# Altium integrated library AltiumDesignerLibrary.IntLib: 55 symbols (part 1 of 2)
Pins are listed as number, name and electrical type; pins without a type are passive.

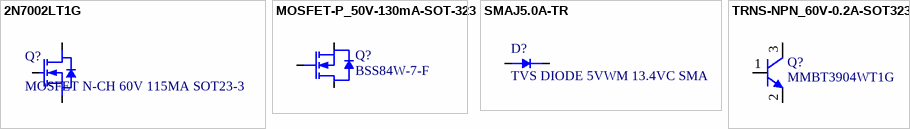
[diagram p0: symbols 2N7002LT1G to TRNS-NPN_60V-0.2A-SOT323]

## 2N7002LT1G
designator Q?, comment MOSFET N-CH 60V 115MA SOT23-3
Mosfet; N-ch; Vdss 60VDC; Rds(on) 7.5 Ohms; Id +/-115MA; SOT-23 (TO-236); Pd 225MW; -55; Manufacturer: ON Semiconductor; Manufacturer Part Number: 2N7002LT1G; Rds On Max: 7.5R; Input Capacitance: 50pF; Nominal Vgs: 2.5V; Number of Elements: 1; Power Dissipation: 300mW; Turn-Off Delay Time: 40ns; Turn-On Delay Time: 20ns; Element Configuration: Single; Gate to Source Voltage (Vgs): 20V; Supplier 1: Digi-Key; RoHS: Yes; Category: MOSFETs; Pricing 1: 1=0/20000, 10=0/18100, 100=0/09830, 500=0/06050, 1000=0/04125 (USD); Case/Package: SOT-23-3; Number of Pins: 3; Contact Plating: Tin,Matte; Min Operating Temperature: -55°C; Max Operating Temperature: 150°C; Package Quantity: 1; Max Power Dissipation: 225mW; Packaging: Tape and Reel; Drain to Source Voltage (Vdss): 60V; Continuous Drain Current (ID): 115mA; Drain to Source Breakdown Voltage: 60V; Drain to Source Resistance: 7.5R; Threshold Voltage: 2.5V; Voltage Rating (DC): 60V; Current Rating: 115mA; On-State Resistance: 7.5R; Number of Channels: 1; Length: 3.04mm; Width: 1.4mm; Height: 1.01mm; Radiation Hardening: No; REACH SVHC: No SVHC; Lead Free: Lead Free; Halogen Free: Halogen Free; RoHS Compliant: Yes; ComponentLink1URL: https://datasheet.ciiva.com/936/2n7002l-d-936784.pdf?src-supplier=Digi-Key; ComponentLink1Description: https://datasheet.ciiva.com/936/2n7002l-d-936784.pdf?src-supplier=Digi-Key; ComponentLink2URL: https://datasheet.ciiva.com/22749/1747988-22749570.pdf?src-supplier=Element14; ComponentLink2Description: https://datasheet.ciiva.com/22749/1747988-22749570.pdf?src-supplier=Element14; ComponentLink3URL: https://datasheet.ciiva.com/3304/2n7002l-d-3304393.pdf?src-supplier=Avnet; ComponentLink3Description: https://datasheet.ciiva.com/3304/2n7002l-d-3304393.pdf?src-supplier=Avnet; ComponentLink4URL: https://datasheet.ciiva.com/24157/2n7002l-d-24157398.pdf?src-supplier=Future+Electronics; ComponentLink4Description: https://datasheet.ciiva.com/24157/2n7002l-d-24157398.pdf?src-supplier=Future+Electronics; ComponentLink5URL: https://datasheet.ciiva.com/26146/2n7002l-d-26146173.pdf?src-supplier=Avnet+Europe; ComponentLink5Description: https://datasheet.ciiva.com/26146/2n7002l-d-26146173.pdf?src-supplier=Avnet+Europe; ComponentLink6URL: https://datasheet.ciiva.com/16542/2n7002l-d-16542607.pdf?src-supplier=Avnet+Asia; ComponentLink6Description: https://datasheet.ciiva.com/16542/2n7002l-d-16542607.pdf?src-supplier=Avnet+Asia; ComponentLink7URL: https://datasheet.ciiva.com/8114/2n7002l-d-8114823.pdf?src-supplier=Avnet; ComponentLink7Description: https://datasheet.ciiva.com/8114/2n7002l-d-8114823.pdf?src-supplier=Avnet; ComponentLink8URL: https://datasheet.ciiva.com/936/2n7002l-d-936785.pdf?src-supplier=Digi-Key; ComponentLink8Description: https://datasheet.ciiva.com/936/2n7002l-d-936785.pdf?src-supplier=Digi-Key; ComponentLink9URL: https://datasheet.ciiva.com/936/2n7002l-d-936786.pdf?src-supplier=Digi-Key; ComponentLink9Description: https://datasheet.ciiva.com/936/2n7002l-d-936786.pdf?src-supplier=Digi-Key; ComponentLink10URL: https://datasheet.ciiva.com/1254/1747988-1254500.pdf?src-supplier=Newark; ComponentLink10Description: https://datasheet.ciiva.com/1254/1747988-1254500.pdf?src-supplier=Newark; ComponentLink11URL: https://datasheet.ciiva.com/1188/97418-1188471.pdf?src-supplier=Element14; ComponentLink11Description: https://datasheet.ciiva.com/1188/97418-1188471.pdf?src-supplier=Element14; Supplier Part Number 1: 2N7002LT1GOSCT-ND
footprint SOT95P245X110-3N (SOT23, 3-Leads, Body 2/90x2/45mm, Pitch 0/95mm, IPC Medium Density)
pins: 1 G, 2 S, 3 D

## MOSFET-P_50V-130mA-SOT-323
designator Q?, comment BSS84W-7-F
P-Channel 50V 130mA (Ta) 200mW (Ta) Surface Mount SOT-323; Manufacturer: Diodes Incorporated; Manufacturer Part Number: BSS84W-7-F; Case/Package: SOT-323; Supplier-1: Digikey
pins: 1 G, 2 S, 3 D

## SMAJ5.0A-TR
designator D?, comment TVS DIODE 5VWM 13.4VC SMA
13.4V Clamp 174A (8/20µs) Ipp Tvs Diode Surface Mount SMA (DO-214AC); Supplier 1: Digi-Key; Supplier Part Number 1: 497-2999-1-ND
footprint DIOM4326X24N (Molded Diode, 2-Leads, Body 4/28x2/58mm, IPC Medium Density)
pins: 1 K (power), 2 A (power)

## TRNS-NPN_60V-0.2A-SOT323
designator Q?, comment MMBT3904WT1G
Bipolar Transistors - BJT 200mA 60V NPN; Manufacturer: ON Semiconductor; Manufacturer Part Number: MMBT3904WT1G; Case/Package: SOT323; Supplier-1: Digikey
footprint SOT-323-3 (SOT Package)
pins: 1 B, 2 E, 3 C


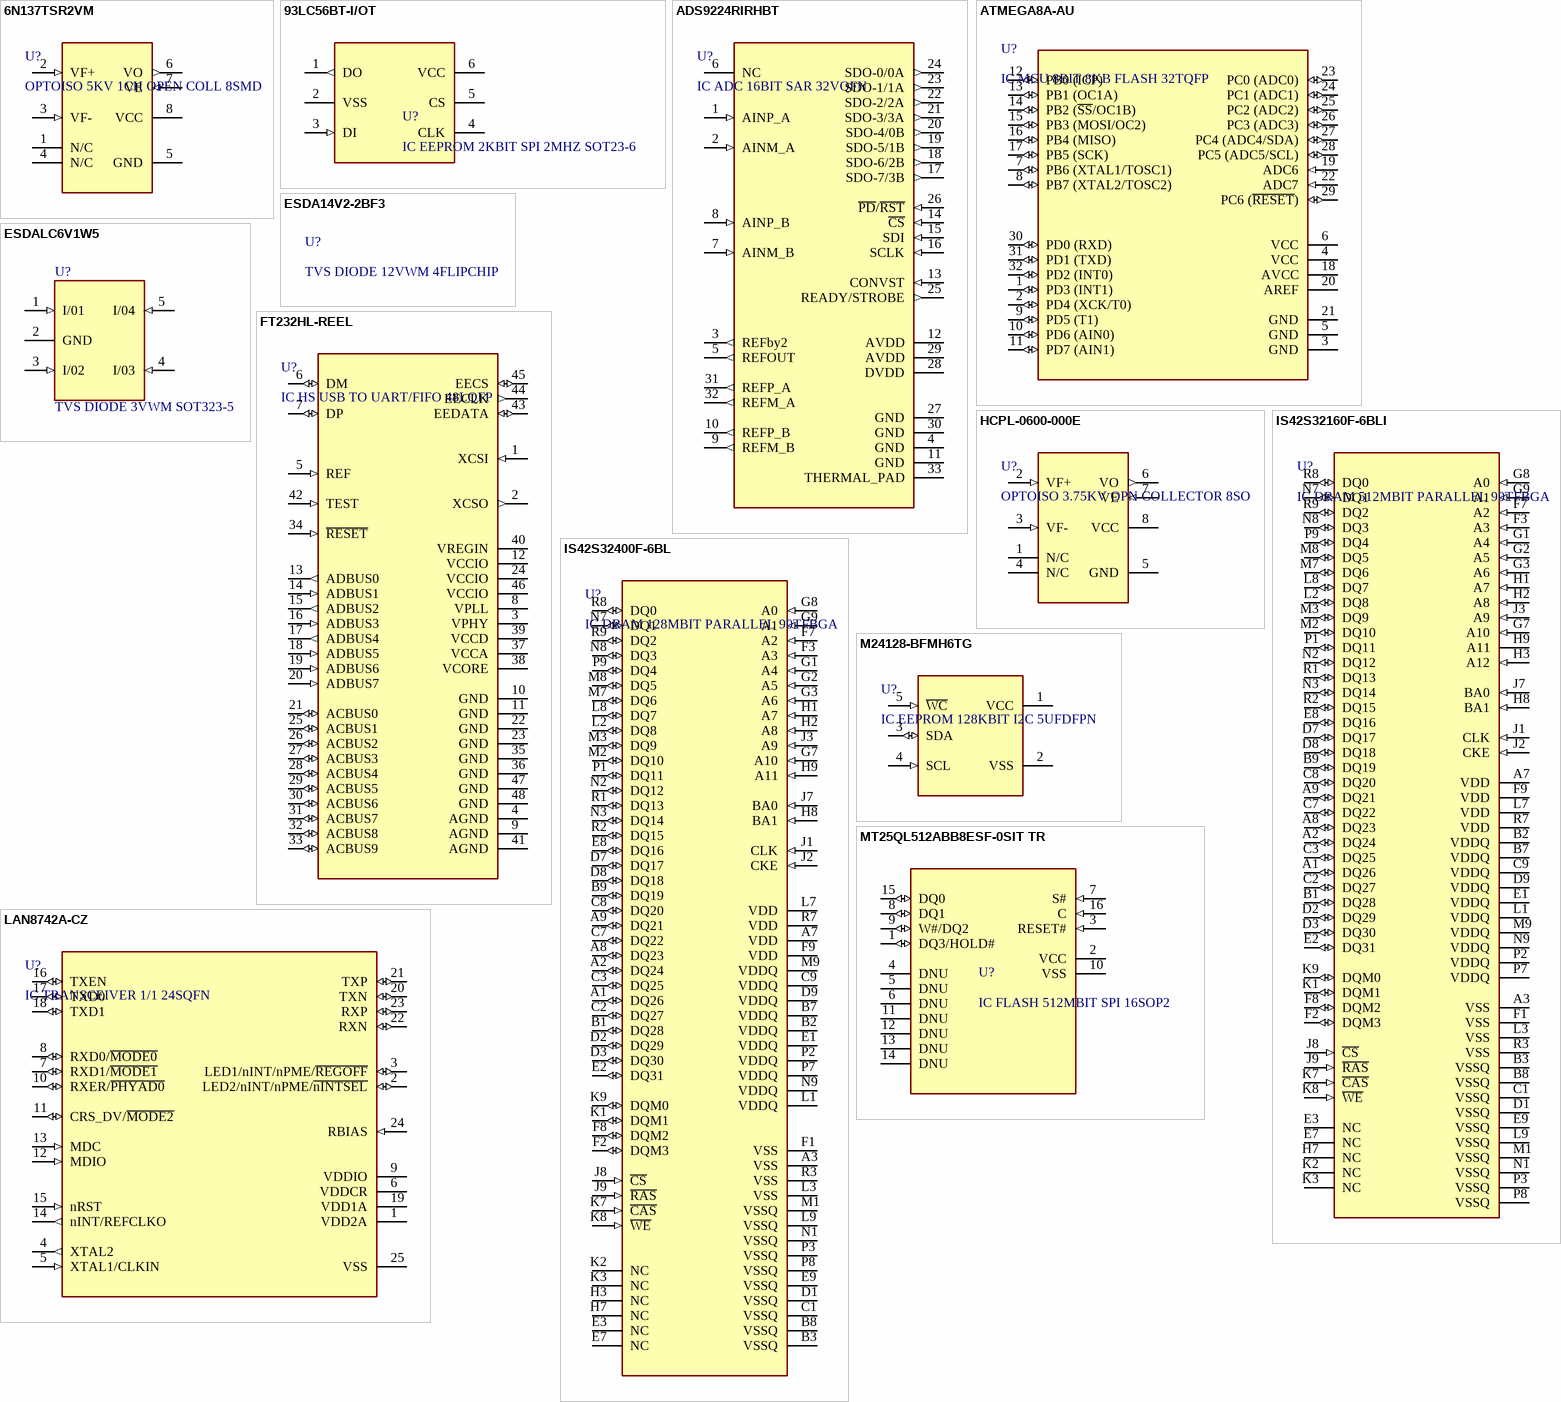
[diagram p1: symbols 6N137TSR2VM to MT25QL512ABB8ESF-0SIT TR]

## 6N137TSR2VM
designator U?, comment OPTOISO 5KV 1CH OPEN COLL 8SMD
Optocoupler Logic-Out Open Collector DC-IN 1-CH 8-Pin MDIP SMD T/R; Manufacturer: ON Semiconductor / Fairchild; Manufacturer Part Number: 6N137TSR2VM; Number of Channels: 1; Output Current per Channel: 50mA; Data Rate: 10Mbps; Propagation Delay: 75ns; Direction: Unidirectional; Forward Voltage: 1.45V; Max Power Dissipation: 100mW; Supplier 1: Digi-Key; RoHS: Yes; Category: Optocouplers; Stock 1: 53; Pricing 1: 1=2/35000, 10=1/56600, 100=1/20550 (USD); Mount: Surface Mount; Case/Package: SMD/SMT; Number of Pins: 8; Contact Plating: Tin,Matte; Weight: 0.819g; Min Operating Temperature: -40°C; Max Operating Temperature: 100°C; Packaging: Tape and Reel; Turn-On Delay Time: 75ns; Lead Free: Lead Free; RoHS Compliant: Yes; ComponentLink1URL: http://www.mouser.com/ds/2/149/6N137M-371292.pdf?src-supplier=Mouser; ComponentLink1Description: http://www.mouser.com/ds/2/149/6N137M-371292.pdf?src-supplier=Mouser; ComponentLink2URL: https://www.fairchildsemi.com/datasheets/6N/6N137M.pdf?src-supplier=Avnet; ComponentLink2Description: https://www.fairchildsemi.com/datasheets/6N/6N137M.pdf?src-supplier=Avnet; Supplier Part Number 1: 6N137TSR2VMCT-ND
footprint SOP254P1030X508-8N (SOP, 8-Leads, Body 9/66x6/61mm, Pitch 2/54mm, IPC Medium Density)
pins: 1 N/C, 2 VF+ (in), 3 VF- (in), 4 N/C, 5 GND (power), 6 VO (out), 7 VE (in), 8 VCC (power)

## 93LC56BT-I/OT
designator U?, comment IC EEPROM 2KBIT SPI 2MHZ SOT23-6
EEPROM Memory IC 2Kb (128 x 16) SPI 2 MHz SOT-23-6; Supplier 1: Digi-Key; Supplier Part Number 1: 93LC56BT-I/OTCT-ND
footprint SOT95P270X145-6N (SOT23, 6-Leads, Body 2/90x2/70mm, Pitch 0/95mm, IPC Medium Density)
pins: 1 DO (out), 2 VSS (power), 3 DI (in), 4 CLK (power), 5 CS (power), 6 VCC (power)

## ADS9224RIRHBT
designator U?, comment IC ADC 16BIT SAR 32VQFN
2-Channel Dual ADC SAR 3Msps 16-bit Serial 32-Pin VQFN EP T/R; Manufacturer: Texas Instruments; Manufacturer Part Number: ADS9224RIRHBT; Supplier 1: Digi-Key; RoHS: Yes; Category: Analog to Digital Converters (ADCs); Stock 1: 119; Pricing 1: 1=26/60000, 10=24/52800, 25=23/42600, 100=22/75000 (USD); Supplier Part Number 1: 296-ADS9224RIRHBTCT-ND
footprint QFN50P500X500X100_HS-33N (QFN, 32-Leads, Body 5/00x5/00mm, Pitch 0/50mm, Thermal Pad 3/45x3/45mm, IPC Medium Density)
pins: 1 AINP_A (in), 2 AINM_A (in), 3 REFby2 (out), 4 GND (power), 5 REFOUT (out), 6 NC, 7 AINM_B (in), 8 AINP_B (in), 9 REFM_B (out), 10 REFP_B (out), 11 GND (power), 12 AVDD (power), 13 CONVST (in), 14 ~{CS} (in), 15 SDI (in), 16 SCLK (in), 17 SDO-7/3B (out), 18 SDO-6/2B (out), 19 SDO-5/1B (out), 20 SDO-4/0B (out), 21 SDO-3/3A (out), 22 SDO-2/2A (out), 23 SDO-1/1A (out), 24 SDO-0/0A (out), 25 READY/STROBE (out), 26 ~{PD}/~{RST} (in), 27 GND (power), 28 DVDD (power), 29 AVDD (power), 30 GND (power), 31 REFP_A (out), 32 REFM_A (out), 33 THERMAL_PAD (power)

## ATMEGA8A-AU
designator U?, comment IC MCU 8BIT 8KB FLASH 32TQFP
ATmega Series 8 KB Flash 1 KB SRAM 16 MHz 8-Bit Microcontroller - TQFP-32; Manufacturer: Microchip; Manufacturer Part Number: ATMEGA8A-AU; Peripherals: Brown-out Detect/Reset,POR,PWM,WDT; Interface: I2C,SPI,UART,USART; Frequency: 16MHz; Oscillator Type: Internal; Max Supply Voltage: 5.5V; Min Supply Voltage: 2.7V; Supplier 1: Digi-Key; RoHS: Yes; Category: Microcontrollers; Pricing 1: 1=2/47000, 25=2/26560, 100=2/05850 (USD); Case/Package: TQFP; Min Operating Temperature: -40°C; Max Operating Temperature: 85°C; Memory Type: FLASH; Memory Size: 8KB; ComponentLink1URL: http://www.farnell.com/datasheets/2048764.pdf?src-supplier=Farnell; ComponentLink1Description: http://www.farnell.com/datasheets/2048764.pdf?src-supplier=Farnell; ComponentLink2URL: http://www.microchip.com/mymicrochip/filehandler.aspx?ddocname=en590320&src-supplier=Digi-Key; ComponentLink2Description: http://www.microchip.com/mymicrochip/filehandler.aspx?ddocname=en590320&src-supplier=Digi-Key; Supplier Part Number 1: ATMEGA8A-AU-ND
footprint TQFP80P900X900X120-32N (TQFP, 32-Leads, Body 7/00x7/00mm, Pitch 0/80mm, IPC Medium Density)
pins: 1 PD3 (INT1) (io), 2 PD4 (XCK/T0) (io), 3 GND (power), 4 VCC (power), 5 GND (power), 6 VCC (power), 7 PB6 (XTAL1/TOSC1) (io), 8 PB7 (XTAL2/TOSC2) (io), 9 PD5 (T1) (io), 10 PD6 (AIN0) (io), 11 PD7 (AIN1) (io), 12 PB0 (ICP) (io), 13 PB1 (OC1A) (io), 14 PB2 (~{SS}/OC1B) (io), 15 PB3 (MOSI/OC2) (io), 16 PB4 (MISO) (io), 17 PB5 (SCK) (io), 18 AVCC (power), 19 ADC6 (in), 20 AREF, 21 GND (power), 22 ADC7 (in), 23 PC0 (ADC0) (io), 24 PC1 (ADC1) (io), 25 PC2 (ADC2) (io), 26 PC3 (ADC3) (io), 27 PC4 (ADC4/SDA) (io), 28 PC5 (ADC5/SCL) (io), 29 PC6 (~{RESET}) (io), 30 PD0 (RXD) (io), 31 PD1 (TXD) (io), 32 PD2 (INT0) (io)

## ESDA14V2-2BF3
designator U?, comment TVS DIODE 12VWM 4FLIPCHIP
- Clamp - Ipp Tvs Diode Surface Mount 4-FlipChip (0.77x0.77)
footprint BGA4C40P2X2_78X78X66 (BGA, 4-Leads, Body 0/78x0/78mmx0/66mm, Pitch 0/40mm)

## ESDALC6V1W5
designator U?, comment TVS DIODE 3VWM SOT323-5
- Clamp - Ipp Tvs Diode Surface Mount SOT-323-5; Supplier 1: Digi-Key; Supplier Part Number 1: 497-7231-1-ND
footprint SOT65P210X110-5N (SOT23, 5-Leads, Body 2/00x2/10mm, Pitch 0/65mm, IPC Medium Density)
pins: 1 I/01 (in), 2 GND (power), 3 I/02 (in), 4 I/03 (in), 5 I/04 (in)

## FT232HL-REEL
designator U?, comment IC HS USB TO UART/FIFO 48LQFP
Full Speed/High Speed USB Interface Device USB 1.1/USB 2.0 3.3V T/R 48-Pin LQFP; Manufacturer: FTDI; Manufacturer Part Number: FT232HL-REEL; Number of Channels: 1; Max Supply Voltage: 3.63V; Min Supply Voltage: 2.97V; Nominal Supply Current: 60mA; Data Rate: 12Mbps; Interface: UART,RS-232,RS-422,RS-485; Operating Supply Current: 24mA; Supplier 1: Digi-Key; RoHS: Yes; Category: Interface ICs; Pricing 1: 1=3/89000, 10=3/73000, 50=3/36000, 100=3/26000, 250=3/10000, 500=3/06250 (USD); Mount: Surface Mount; Case/Package: LQFP; Number of Pins: 48; Weight: 0.006409oz; Min Operating Temperature: -40°C; Max Operating Temperature: 85°C; Packaging: Tape and Reel; Operating Supply Voltage: 3.3V; Package Quantity: 1; Series: -; Supply Current: 60mA; Length: 7mm; Width: 7mm; Height: 1.4mm; REACH SVHC: No SVHC; Lead Free: Lead Free; RoHS Compliant: Yes; ComponentLink1URL: https://datasheet.ciiva.com/1787/ds-ft232h-1787050.pdf?src-supplier=Digi-Key; ComponentLink1Description: https://datasheet.ciiva.com/1787/ds-ft232h-1787050.pdf?src-supplier=Digi-Key; ComponentLink2URL: https://datasheet.ciiva.com/1787/ds-ft232h-1787051.pdf?src-supplier=Digi-Key; ComponentLink2Description: https://datasheet.ciiva.com/1787/ds-ft232h-1787051.pdf?src-supplier=Digi-Key; ComponentLink3URL: https://datasheet.ciiva.com/1787/ds-ft232h-1787052.pdf?src-supplier=Digi-Key; ComponentLink3Description: https://datasheet.ciiva.com/1787/ds-ft232h-1787052.pdf?src-supplier=Digi-Key; ComponentLink4URL: https://datasheet.ciiva.com/4787/ds-ft232h-11324-4787564.pdf?src-supplier=Mouser; ComponentLink4Description: https://datasheet.ciiva.com/4787/ds-ft232h-11324-4787564.pdf?src-supplier=Mouser; ComponentLink5URL: https://datasheet.ciiva.com/7661/ds-ft232h-7661546.pdf?src-supplier=Element14; ComponentLink5Description: https://datasheet.ciiva.com/7661/ds-ft232h-7661546.pdf?src-supplier=Element14; Supplier Part Number 1: 768-1101-1-ND
footprint CQFP50P900X900X160-48N (CQFP, 48-Leads, Body 9/00x9/00mm, Pitch 0/50mm, IPC Medium Density)
pins: 1 XCSI (in), 2 XCSO (out), 3 VPHY (power), 4 AGND (power), 5 REF (in), 6 DM (io), 7 DP (io), 8 VPLL (power), 9 AGND (power), 10 GND (power), 11 GND (power), 12 VCCIO (power), 13 ADBUS0 (out), 14 ADBUS1 (in), 15 ADBUS2 (out), 16 ADBUS3 (in), 17 ADBUS4 (out), 18 ADBUS5 (in), 19 ADBUS6 (in), 20 ADBUS7 (in), 21 ACBUS0 (io), 22 GND (power), 23 GND (power), 24 VCCIO (power), 25 ACBUS1 (io), 26 ACBUS2 (io), 27 ACBUS3 (io), 28 ACBUS4 (io), 29 ACBUS5 (io), 30 ACBUS6 (io), 31 ACBUS7 (io), 32 ACBUS8 (io), 33 ACBUS9 (io), 34 ~{RESET} (in), 35 GND (power), 36 GND (power), 37 VCCA (power), 38 VCORE (power), 39 VCCD (power), 40 VREGIN (power), 41 AGND (power), 42 TEST (in), 43 EEDATA (io), 44 EECLK (out), 45 EECS (io), 46 VCCIO (power), 47 GND (power), 48 GND (power)

## HCPL-0600-000E
designator U?, comment OPTOISO 3.75KV OPN COLLECTOR 8SO
Optocoupler Logic-Out Open Collector DC-IN 1-CH 8-Pin SOIC Tube; Manufacturer: Broadcom Avago; Manufacturer Part Number: HCPL-0600-000E; Output Current: 50mA; Rise Time: 24ns; Forward Current: 20mA; Forward Voltage: 1.75V; Propagation Delay: 75ns; Reverse Breakdown Voltage: 5V; Direction: Unidirectional; Max Power Dissipation: 85mW; Number of Channels: 1; Fall Time: 10ns; Min Supply Voltage: 4.5V; Max Supply Voltage: 5.5V; Max Output Voltage: 7V; Input Type: DC; Approvals: UL,CSA; Supplier 1: Digi-Key; RoHS: Yes; Category: Optocouplers; Stock 1: 8582; Pricing 1: 1=2/57000, 10=1/71100, 100=1/31710, 500=1/19060, 1000=1/05300 (USD); Mount: Surface Mount,Through Hole; Case/Package: SOIC; Number of Pins: 8; Min Operating Temperature: -40°C; Max Operating Temperature: 85°C; Package Quantity: 100; Packaging: Rail/Tube; Max Output Current: 50mA; Output Current per Channel: 50mA; Isolation Voltage: 3.75kV; Number of Elements: 1; Power Dissipation: 85mW; Turn-On Delay Time: 75ns; Max Input Current: 20mA; Series: -; Collector Emitter Breakdown Voltage: 7V; Radiation Hardening: No; REACH SVHC: No SVHC; RoHS Compliant: Yes; ComponentLink1URL: https://datasheet.ciiva.com/11771/0900766b8077970f-11771848.pdf?src-supplier=RSComponents; ComponentLink1Description: https://datasheet.ciiva.com/11771/0900766b8077970f-11771848.pdf?src-supplier=RSComponents; ComponentLink2URL: https://datasheet.ciiva.com/15119/getdatasheetpartid-112693-15119664.pdf?src-supplier=Verical; ComponentLink2Description: https://datasheet.ciiva.com/15119/getdatasheetpartid-112693-15119664.pdf?src-supplier=Verical; ComponentLink3URL: https://datasheet.ciiva.com/26331/140053-da-01-en-optokoppler-hcpl-0600-000e-26331121.pdf?src-supplier=Conrad; ComponentLink3Description: https://datasheet.ciiva.com/26331/140053-da-01-en-optokoppler-hcpl-0600-000e-26331121.pdf?src-supplier=Conrad; Supplier Part Number 1: 516-1734-5-ND
footprint SOIC127P600X330-8N (SOIC, 8-Leads, Body 5/14x3/94mm, Pitch 1/27mm, IPC Medium Density)
pins: 1 N/C, 2 VF+ (in), 3 VF- (in), 4 N/C, 5 GND (power), 6 VO (out), 7 VE (in), 8 VCC (power)

## IS42S32160F-6BLI
designator U?, comment IC DRAM 512MBIT PARALLEL 90TFBGA
SDRAM Memory IC 512Mb (16M x 32) Parallel 167 MHz 5.4 ns 90-TFBGA (8x13); Supplier 1: Digi-Key; Supplier Part Number 1: 706-1364-ND
footprint BGA90C80P9X15_800X1300X120 (BGA, 90-Leads, Body 8/00x13/00mmx1/20mm, Pitch 0/80mm)
pins: A1 DQ26 (io), A2 DQ24 (io), A3 VSS (power), A7 VDD (power), A8 DQ23 (io), A9 DQ21 (io), B1 DQ28 (io), B2 VDDQ (power), B3 VSSQ (power), B7 VDDQ (power), B8 VSSQ (power), B9 DQ19 (io), C1 VSSQ (power), C2 DQ27 (io), C3 DQ25 (io), C7 DQ22 (io), C8 DQ20 (io), C9 VDDQ (power), D1 VSSQ (power), D2 DQ29 (io), D3 DQ30 (io), D7 DQ17 (io), D8 DQ18 (io), D9 VDDQ (power), E1 VDDQ (power), E2 DQ31 (io), E3 NC (power), E7 NC (power), E8 DQ16 (io), E9 VSSQ (power), F1 VSS (power), F2 DQM3 (io), F3 A3 (in), F7 A2 (in), F8 DQM2 (io), F9 VDD (power), G1 A4 (in), G2 A5 (in), G3 A6 (in), G7 A10 (in), G8 A0 (in), G9 A1 (in), H1 A7 (in), H2 A8 (in), H3 A12 (in), H7 NC (power), H8 BA1 (in), H9 A11 (power), J1 CLK (in), J2 CKE (in), J3 A9 (in), J7 BA0 (in), J8 ~{CS} (in), J9 ~{RAS} (in), K1 DQM1 (io), K2 NC (power), K3 NC (power), K7 ~{CAS} (in), K8 ~{WE} (in), K9 DQM0 (io), L1 VDDQ (power), L2 DQ8 (io), L3 VSS (power), L7 VDD (power), L8 DQ7 (io), L9 VSSQ (power), M1 VSSQ (power), M2 DQ10 (io), M3 DQ9 (io), M7 DQ6 (io), M8 DQ5 (io), M9 VDDQ (power), N1 VSSQ (power), N2 DQ12 (io), N3 DQ14 (io), N7 DQ1 (io), N8 DQ3 (io), N9 VDDQ (power), P1 DQ11 (io), P2 VDDQ (power), P3 VSSQ (power), P7 VDDQ (power), P8 VSSQ (power), P9 DQ4 (io), R1 DQ13 (io), R2 DQ15 (io), R3 VSS (power), R7 VDD (power), R8 DQ0 (io), R9 DQ2 (io)

## IS42S32400F-6BL
designator U?, comment IC DRAM 128MBIT PARALLEL 90TFBGA
DRAM Chip SDRAM 128M-Bit 4Mx32 3.3V 90-Pin W-BGA (Alt: IS42S32400F-6BL); Manufacturer: ISSI; Access Time: 5.4ns; Max Supply Voltage: 3.6V; Min Supply Voltage: 3V; Address Bus Width: 14b; Nominal Supply Current: 150mA; Density: 128Mb; Data Bus Width: 32b; Memory Type: RAM,SDRAM; Frequency: 166MHz; Supplier 1: Digi-Key; Manufacturer Part Number: IS42S32400F-6BL; RoHS: Yes; Category: RAM; Pricing 1: 240=5/43213 (USD); Mount: Surface Mount; Case/Package: TFBGA; Number of Pins: 90; Min Operating Temperature: 0°C; Max Operating Temperature: 70°C; Packaging: Tray; Package Quantity: 240; Operating Supply Voltage: 3.3V; Memory Size: 128Mb; Interface: Parallel; Max Frequency: 166MHz; Series: -; Organization: 4MX32; Supply Current: 150mA; Radiation Hardening: No; ComponentLink1URL: http://components.arrow.com/part/dataview/51579296S35176N1393?src-supplier=Arrow+Electronics; ComponentLink1Description: http://components.arrow.com/part/dataview/51579296S35176N1393?src-supplier=Arrow+Electronics; ComponentLink2URL: http://www.mouser.com/ds/2/198/42-45S32400F-258273.pdf?src-supplier=Mouser; ComponentLink2Description: http://www.mouser.com/ds/2/198/42-45S32400F-258273.pdf?src-supplier=Mouser; ComponentLink3URL: https://www.verical.com/server-webapp/html/getDatasheet?partID=571356&src-supplier=Verical; ComponentLink3Description: https://www.verical.com/server-webapp/html/getDatasheet?partID=571356&src-supplier=Verical; ComponentLink4URL: http://components.arrow.com/part/dataview/0323_03621789?src-supplier=Arrow+Europe; ComponentLink4Description: http://components.arrow.com/part/dataview/0323_03621789?src-supplier=Arrow+Europe; ComponentLink5URL: http://www.issi.com/WW/pdf/42-45S32400F.pdf?src-supplier=Digi-Key; ComponentLink5Description: http://www.issi.com/WW/pdf/42-45S32400F.pdf?src-supplier=Digi-Key; ComponentLink6URL: http://www.issi.com/pdf/42-45S32400F.pdf?src-supplier=Avnet; ComponentLink6Description: http://www.issi.com/pdf/42-45S32400F.pdf?src-supplier=Avnet; ComponentLink7URL: http://www.issi.com/WW/pdf/42-45S32400F.pdf?src-supplier=Avnet+Europe; ComponentLink7Description: http://www.issi.com/WW/pdf/42-45S32400F.pdf?src-supplier=Avnet+Europe; Supplier Part Number 1: IS42S32400F-6BL-ND
footprint BGA90C80P9X15_800X1300X120 (BGA, 90-Leads, Body 8/00x13/00mmx1/20mm, Pitch 0/80mm)
pins: A1 DQ26 (io), A2 DQ24 (io), A3 VSS (power), A7 VDD (power), A8 DQ23 (io), A9 DQ21 (io), B1 DQ28 (io), B2 VDDQ (power), B3 VSSQ (power), B7 VDDQ (power), B8 VSSQ (power), B9 DQ19 (io), C1 VSSQ (power), C2 DQ27 (io), C3 DQ25 (io), C7 DQ22 (io), C8 DQ20 (io), C9 VDDQ (power), D1 VSSQ (power), D2 DQ29 (io), D3 DQ30 (io), D7 DQ17 (io), D8 DQ18 (io), D9 VDDQ (power), E1 VDDQ (power), E2 DQ31 (io), E3 NC, E7 NC, E8 DQ16 (io), E9 VSSQ (power), F1 VSS (power), F2 DQM3 (io), F3 A3 (in), F7 A2 (in), F8 DQM2 (io), F9 VDD (power), G1 A4 (in), G2 A5 (in), G3 A6 (in), G7 A10 (in), G8 A0 (in), G9 A1 (in), H1 A7 (in), H2 A8 (in), H3 NC, H7 NC, H8 BA1 (in), H9 A11 (in), J1 CLK (in), J2 CKE (in), J3 A9 (in), J7 BA0 (in), J8 ~{CS} (in), J9 ~{RAS} (in), K1 DQM1 (io), K2 NC, K3 NC, K7 ~{CAS} (in), K8 ~{WE} (in), K9 DQM0 (io), L1 VDDQ (power), L2 DQ8 (io), L3 VSS (power), L7 VDD (power), L8 DQ7 (io), L9 VSSQ (power), M1 VSSQ (power), M2 DQ10 (io), M3 DQ9 (io), M7 DQ6 (io), M8 DQ5 (io), M9 VDDQ (power), N1 VSSQ (power), N2 DQ12 (io), N3 DQ14 (io), N7 DQ1 (io), N8 DQ3 (io), N9 VDDQ (power), P1 DQ11 (io), P2 VDDQ (power), P3 VSSQ (power), P7 VDDQ (power), P8 VSSQ (power), P9 DQ4 (io), R1 DQ13 (io), R2 DQ15 (io), R3 VSS (power), R7 VDD (power), R8 DQ0 (io), R9 DQ2 (io)

## LAN8742A-CZ
designator U?, comment IC TRANSCEIVER 1/1 24SQFN
Small Footprint RMII 10/100 Ethernet Transceiver with flexPWR Technology; Manufacturer: Microchip; Manufacturer Part Number: LAN8742A-CZ; Data Rate: 100Mbps; Min Supply Voltage: 1.62V; Max Supply Voltage: 3.6V; Number of Transceivers: 1; Supplier 1: Digi-Key; RoHS: Yes; Category: Ethernet Interface ICs; Pricing 1: 1=1/47000, 25=1/22960, 100=1/18500 (USD); Mount: Surface Mount; Case/Package: QFN; Number of Pins: 24; Min Operating Temperature: 0°C; Max Operating Temperature: 85°C; Packaging: Tray; Package Quantity: 490; Length: 4.1mm; Width: 4.1mm; Height: 0.95mm; Radiation Hardening: No; REACH SVHC: No SVHC; RoHS Compliant: Yes; ComponentLink1URL: https://datasheet.ciiva.com/28472/1776727-28472380.pdf?src-supplier=Element14; ComponentLink1Description: https://datasheet.ciiva.com/28472/1776727-28472380.pdf?src-supplier=Element14; ComponentLink2URL: https://datasheet.ciiva.com/29882/8742a-29882613.pdf?src-supplier=Avnet; ComponentLink2Description: https://datasheet.ciiva.com/29882/8742a-29882613.pdf?src-supplier=Avnet; Supplier Part Number 1: LAN8742A-CZ-ND
footprint QFN50P400X400X50_HS-25N (QFN, 24-Leads, Body 4/00x4/00mm, Pitch 0/50mm, Thermal Pad 2/50x2/50mm, IPC Medium Density)
pins: 1 VDD2A (power), 2 LED2/nINT/nPME/~{nINTSEL} (io), 3 LED1/nINT/nPME/~{REGOFF} (io), 4 XTAL2 (out), 5 XTAL1/CLKIN (in), 6 VDDCR (power), 7 RXD1/~{MODE1} (io), 8 RXD0/~{MODE0} (io), 9 VDDIO (power), 10 RXER/~{PHYAD0} (io), 11 CRS_DV/~{MODE2} (io), 12 MDIO (in), 13 MDC (in), 14 nINT/REFCLKO (out), 15 nRST (in), 16 TXEN (io), 17 TXD0 (io), 18 TXD1 (io), 19 VDD1A (power), 20 TXN (io), 21 TXP (io), 22 RXN (io), 23 RXP (io), 24 RBIAS (in), 25 VSS (power)

## M24128-BFMH6TG
designator U?, comment IC EEPROM 128KBIT I2C 5UFDFPN
EEPROM Serial I2C 128Kbit 16K X 8 1.7V to 5.5V 5-Pin UFDFPN T/R; Manufacturer: STMicroelectronics; Manufacturer Part Number: M24128-BFMH6TG; Memory Type: Non-Volatile,EEPROM; Memory Size: 128Kb; Frequency: 1MHz; Access Time: 450ns; Supplier 1: Digi-Key; RoHS: Yes; Category: Memory; Stock 1: 77315; Pricing 1: 1=0/32000, 10=0/31700, 25=0/29440, 50=0/29280, 100=0/26000, 250=0/25672, 500=0/25284, 1000=0/24608 (USD); Mount: Surface Mount; Number of Pins: 5; Min Operating Temperature: -40°C; Max Operating Temperature: 85°C; Packaging: Cut Tape; RoHS Compliant: Yes; ComponentLink1URL: http://www.st.com/content/ccc/resource/technical/document/errata_sheet/group0/af/5d/31/f9/b2/40/4a/99/DM00311841/files/DM00311841.pdf/jcr:content/translations/en.DM00311841.pdf?src-supplier=Digi-Key; ComponentLink1Description: http://www.st.com/content/ccc/resource/technical/document/errata_sheet/group0/af/5d/31/f9/b2/40/4a/99/DM00311841/files/DM00311841.pdf/jcr:content/translations/en.DM00311841.pdf?src-supplier=Digi-Key; ComponentLink2URL: http://www.st.com/content/ccc/resource/technical/document/datasheet/59/05/c9/5b/7b/41/48/b6/CD00259167.pdf/files/CD00259167.pdf/jcr:content/translations/en.CD00259167.pdf?src-supplier=Digi-Key; ComponentLink2Description: http://www.st.com/content/ccc/resource/technical/document/datasheet/59/05/c9/5b/7b/41/48/b6/CD00259167.pdf/files/CD00259167.pdf/jcr:content/translations/en.CD00259167.pdf?src-supplier=Digi-Key; Supplier Part Number 1: 497-17565-1-ND
footprint DFN95P170X60-5N (DFN, 5-Leads, Body 1/40x1/70mm, Pitch 0/95mm, IPC Medium Density)
pins: 1 VCC (power), 2 VSS (power), 3 SDA (io), 4 SCL (in), 5 ~{WC} (in)

## MT25QL512ABB8ESF-0SIT TR
designator U?, comment IC FLASH 512MBIT SPI 16SOP2
FLASH - NOR Memory IC 512Mb (64M x 8) SPI 133 MHz 16-SOP2; Supplier 1: Mouser; Supplier Part Number 1: 340-278183-REEL
footprint SOP127P1030X265-16N (SOP, 16-Leads, Body 10/30x7/50mm, Pitch 1/27mm, IPC Medium Density)
pins: 1 DQ3/HOLD# (io), 2 VCC (power), 3 RESET# (in), 4 DNU (power), 5 DNU (power), 6 DNU (power), 7 S# (in), 8 DQ1 (io), 9 W#/DQ2 (io), 10 VSS (power), 11 DNU (power), 12 DNU (power), 13 DNU (power), 14 DNU (power), 15 DQ0 (io), 16 C (in)

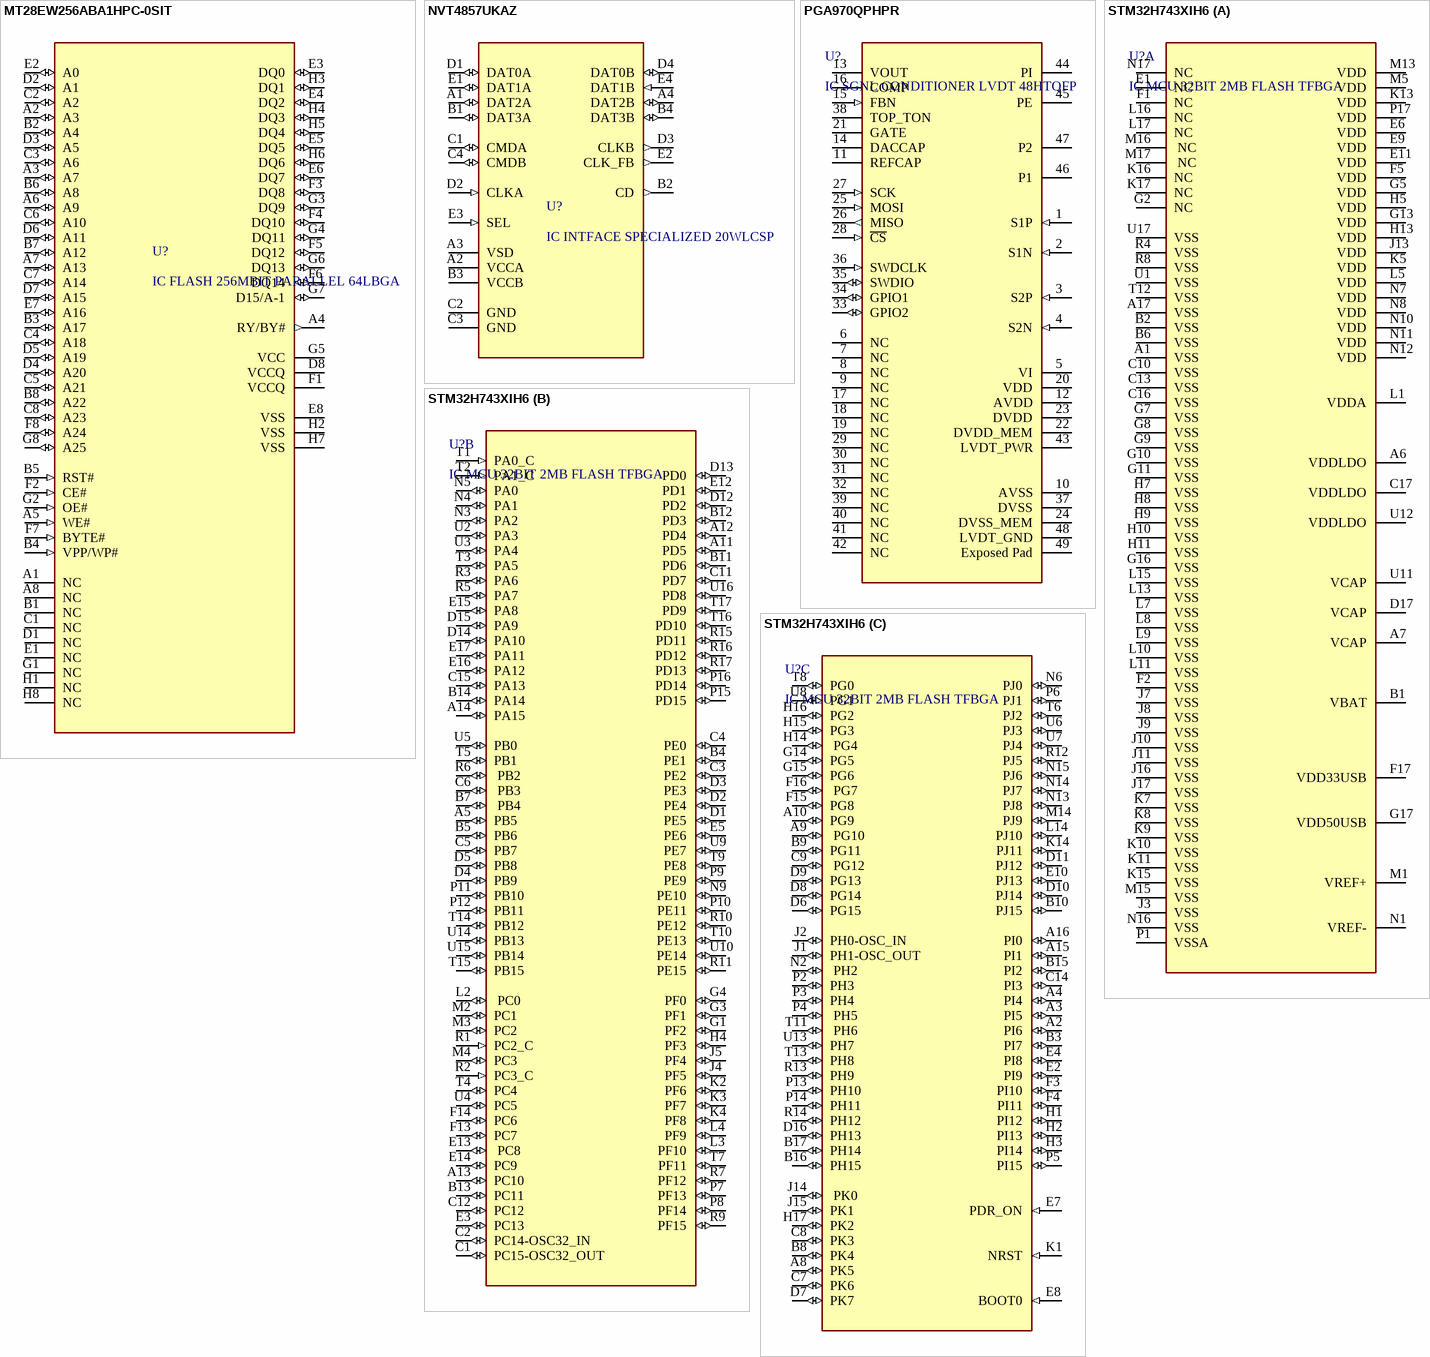
[diagram p2: symbols MT28EW256ABA1HPC-0SIT to STM32H743XIH6]

## MT28EW256ABA1HPC-0SIT
designator U?, comment IC FLASH 256MBIT PARALLEL 64LBGA
FLASH - NOR Memory IC 256Mb (32M x 8, 16M x 16) Parallel 75 ns 64-LBGA (11x13); Supplier 1: Mouser; Supplier Part Number 1: 340-284307-TRAY
footprint BGA64C100P8X8_1100X1300X140 (BGA, 64-Leads, Body 11/00x13/00mmx1/40mm, Pitch 1/00mm)
pins: A1 NC (power), A2 A3 (io), A3 A7 (io), A4 RY/BY# (out), A5 WE# (in), A6 A9 (io), A7 A13 (io), A8 NC (power), B1 NC (power), B2 A4 (io), B3 A17 (io), B4 VPP/WP# (in), B5 RST# (in), B6 A8 (io), B7 A12 (io), B8 A22 (io), C1 NC (power), C2 A2 (io), C3 A6 (io), C4 A18 (io), C5 A21 (io), C6 A10 (io), C7 A14 (io), C8 A23 (io), D1 NC (power), D2 A1 (io), D3 A5 (io), D4 A20 (io), D5 A19 (io), D6 A11 (io), D7 A15 (io), D8 VCCQ (power), E1 NC (power), E2 A0 (io), E3 DQ0 (io), E4 DQ2 (io), E5 DQ5 (io), E6 DQ7 (io), E7 A16 (io), E8 VSS (power), F1 VCCQ (power), F2 CE# (in), F3 DQ8 (io), F4 DQ10 (io), F5 DQ12 (io), F6 DQ14 (io), F7 BYTE# (in), F8 A24 (io), G1 NC (power), G2 OE# (in), G3 DQ9 (io), G4 DQ11 (io), G5 VCC (power), G6 DQ13 (io), G7 D15/A-1 (io), G8 A25 (io), H1 NC (power), H2 VSS (power), H3 DQ1 (io), H4 DQ3 (io), H5 DQ4 (io), H6 DQ6 (io), H7 VSS (power), H8 NC (power)

## NVT4857UKAZ
designator U?, comment IC INTFACE SPECIALIZED 20WLCSP
Memory Card Interface 20-WLCSP (2.1x1.7); Supplier 1: Digi-Key; Supplier Part Number 1: 568-15389-1-ND
footprint BGA20C40P4X5_170X210X53 (BGA, 20-Leads, Body 1/70x2/10mmx0/53mm, Pitch 0/40mm)
pins: A1 DAT2A (io), A2 VCCA (power), A3 VSD (power), A4 DAT2B (io), B1 DAT3A (io), B2 CD (out), B3 VCCB (power), B4 DAT3B (io), C1 CMDA (io), C2 GND (power), C3 GND (power), C4 CMDB (io), D1 DAT0A (io), D2 CLKA (in), D3 CLKB (out), D4 DAT0B (io), E1 DAT1A (io), E2 CLK_FB (out), E3 SEL (in), E4 DAT1B (in)

## PGA970QPHPR
designator U?, comment IC SGNL CONDITIONER LVDT 48HTQFP
Sensor and Detector Interface 30V 12.5mA SPI/OWI Interface 48-Pin HTQFP EP T/R; Manufacturer: Texas Instruments; Manufacturer Part Number: PGA970QPHPR; Interface: SPI; Sampling Rate: 7.8S/s; Supplier 1: Digi-Key; RoHS: Yes; Category: Integrated Circuits (ICs); Stock 1: 383; Pricing 1: 1=21/12000, 10=19/40600, 25=18/60200, 100=16/60050 (USD); Mount: Surface Mount; Number of Pins: 48; Min Operating Temperature: -40°C; Max Operating Temperature: 125°C; Packaging: Cut Tape; Operating Supply Current: 12.5mA; RoHS Compliant: Yes; ComponentLink1URL: http://www.ti.com/lit/ds/symlink/pga970.pdf?src-supplier=Digi-Key; ComponentLink1Description: http://www.ti.com/lit/ds/symlink/pga970.pdf?src-supplier=Digi-Key; ComponentLink2URL: http://www.ti.com/general/docs/suppproductinfo.tsp?distId=10&amp;gotoUrl=http%3A%2F%2Fwww.ti.com%2Flit%2Fgpn%2Fpga970&src-supplier=Digi-Key; ComponentLink2Description: http://www.ti.com/general/docs/suppproductinfo.tsp?distId=10&amp;gotoUrl=http%3A%2F%2Fwww.ti.com%2Flit%2Fgpn%2Fpga970&src-supplier=Digi-Key; ComponentLink3URL: http://www.ti.com/lit/ds/symlink/pga970.pdf?src-supplier=Farnell; ComponentLink3Description: http://www.ti.com/lit/ds/symlink/pga970.pdf?src-supplier=Farnell; Supplier Part Number 1: 296-45349-1-ND
footprint TSQFP50P900X900X120_HS-49N (TSQFP, 48-Leads, Body 7/00x7/00mm, Pitch 0/50mm, Thermal Pad 4/90x4/90mm, IPC Medium Density)
pins: 1 S1P (in), 2 S1N (in), 3 S2P (in), 4 S2N (in), 5 VI (power), 6 NC, 7 NC, 8 NC, 9 NC, 10 AVSS (power), 11 REFCAP (power), 12 AVDD (power), 13 VOUT (power), 14 DACCAP (power), 15 FBN (in), 16 COMP (power), 17 NC, 18 NC, 19 NC, 20 VDD (power), 21 GATE (power), 22 DVDD_MEM (power), 23 DVDD (power), 24 DVSS_MEM (power), 25 MOSI (in), 26 MISO (out), 27 SCK (in), 28 ~{CS} (in), 29 NC, 30 NC, 31 NC, 32 NC, 33 GPIO2 (io), 34 GPIO1 (io), 35 SWDIO (io), 36 SWDCLK (in), 37 DVSS (power), 38 TOP_TON (power), 39 NC, 40 NC, 41 NC, 42 NC, 43 LVDT_PWR (power), 44 PI (power), 45 PE (power), 46 P1 (power), 47 P2 (power), 48 LVDT_GND (power), 49 Exposed Pad (power)

## STM32H743XIH6
designator U?, comment IC MCU 32BIT 2MB FLASH TFBGA
MCU 32-Bit STM32H743XI ARM Cortex M7 RISC 2MB Flash 1.62V to 3.6V 265-Pin TFBGA Tray; Manufacturer: STMicroelectronics; Manufacturer Part Number: STM32H743XIH6; Interface: I2C,SPI,USB,Ethernet,IrDA,MMC,SDIO,SD,UART,USART,EBI/EMI; Peripherals: Brown-out Detect/Reset,POR,PWM,WDT,DMA,LCD; Frequency: 400MHz; Number of I/Os: 168; Oscillator Type: Internal; Supplier 1: Digi-Key; RoHS: Yes; Category: Microcontrollers; Pricing 1: 1=20/95000, 10=19/25700, 25=18/45880, 119=16/62958 (USD); Case/Package: TFBGA; Min Operating Temperature: -40°C; Max Operating Temperature: 85°C; Memory Type: FLASH; Packaging: Tray; Core Architecture: ARM; Memory Size: 2MB; RoHS Compliant: Yes; ComponentLink1URL: http://www.farnell.com/datasheets/2551152.pdf?src-supplier=Farnell; ComponentLink1Description: http://www.farnell.com/datasheets/2551152.pdf?src-supplier=Farnell; ComponentLink2URL: http://www.st.com/content/ccc/resource/technical/document/datasheet/group3/23/be/db/eb/29/39/4b/eb/DM00387108/files/DM00387108.pdf/jcr:content/translations/en.DM00387108.pdf?src-supplier=Digi-Key; ComponentLink2Description: http://www.st.com/content/ccc/resource/technical/document/datasheet/group3/23/be/db/eb/29/39/4b/eb/DM00387108/files/DM00387108.pdf/jcr:content/translations/en.DM00387108.pdf?src-supplier=Digi-Key; ComponentLink3URL: http://www.farnell.com/datasheets/2551152.pdf?src-supplier=Element14; ComponentLink3Description: http://www.farnell.com/datasheets/2551152.pdf?src-supplier=Element14; ComponentLink4URL: http://www.farnell.com/datasheets/2551152.pdf?src-supplier=Newark; ComponentLink4Description: http://www.farnell.com/datasheets/2551152.pdf?src-supplier=Newark; Supplier Part Number 1: 497-17724-ND
footprint BGA265C80P17X17_1400X1400X110 (BGA, 265-Leads, Body 14/00x14/00mmx1/10mm, Pitch 0/80mm)
part A pins: A1 VSS (power), A6 VDDLDO (power), A7 VCAP (power), A17 VSS (power), B1 VBAT (power), B2 VSS (power), B6 VSS (power), C10 VSS (power), C13 VSS (power), C16 VSS (power), C17 VDDLDO (power), D17 VCAP (power), E1 NC (power), E6 VDD (power), E9 VDD (power), E11  VDD (power), F1 NC (power), F2 VSS (power), F5 VDD (power), F17 VDD33USB (power), G2 NC (power), G5 VDD (power), G7 VSS (power), G8 VSS (power), G9 VSS (power), G10 VSS (power), G11 VSS (power), G13 VDD (power), G16 VSS (power), G17 VDD50USB (power), H5 VDD (power), H7 VSS (power), H8 VSS (power), H9 VSS (power), H10 VSS (power), H11 VSS (power), H13 VDD (power), J3 VSS (power), J7 VSS (power), J8 VSS (power), J9 VSS (power), J10 VSS (power), J11 VSS (power), J13 VDD (power), J16 VSS (power), J17 VSS (power), K5 VDD (power), K7 VSS (power), K8 VSS (power), K9 VSS (power), K10 VSS (power), K11 VSS (power), K13 VDD (power), K15 VSS (power), K16 NC (power), K17 NC (power), L1 VDDA (power), L5 VDD (power), L7 VSS (power), L8 VSS (power), L9 VSS (power), L10 VSS (power), L11 VSS (power), L13 VSS (power), L15 VSS (power), L16 NC (power), L17 NC (power), M1 VREF+ (power), M5 VDD (power), M13 VDD (power), M15 VSS (power), M16  NC (power), M17  NC (power), N1 VREF- (power), N7 VDD (power), N8 VDD (power), N10 VDD (power), N11 VDD (power), N12 VDD (power), N16 VSS (power), N17 NC (power), P1 VSSA (power), P17  VDD (power), R4 VSS (power), R8 VSS (power), T12 VSS (power), U1 VSS (power), U11 VCAP (power), U12 VDDLDO (power), U17 VSS (power)
part B pins: A5 PB5 (io), A11 PD5 (io), A12 PD4 (io), A13 PC10 (io), A14 PA15 (io), B4 PE1 (io), B5 PB6 (io), B7  PB4 (io), B11 PD6 (io), B12 PD3 (io), B13 PC11 (io), B14 PA14 (io), C1 PC15-OSC32_OUT (io), C2 PC14-OSC32_IN (io), C3 PE2 (io), C4 PE0 (io), C5 PB7 (io), C6  PB3 (io), C11 PD7 (io), C12 PC12 (io), C15 PA13 (io), D1 PE5 (io), D2 PE4 (io), D3 PE3 (io), D4 PB9 (io), D5 PB8 (io), D12 PD2 (io), D13 PD0 (io), D14 PA10 (io), D15 PA9 (io), E3 PC13 (io), E5  PE6 (io), E12 PD1 (io), E13  PC8 (io), E14 PC9 (io), E15 PA8 (io), E16 PA12 (io), E17 PA11 (io), F13 PC7 (io), F14 PC6 (io), G1 PF2 (io), G3  PF1 (io), G4 PF0 (io), H4 PF3 (io), J4 PF5 (io), J5 PF4 (io), K2 PF6 (io), K3 PF7 (io), K4 PF8 (io), L2  PC0 (io), L3 PF10 (io), L4 PF9 (io), M2 PC1 (io), M3 PC2 (io), M4 PC3 (io), N3 PA2 (io), N4 PA1 (io), N5 PA0 (io), N9 PE10 (io), P7 PF13 (io), P8  PF14 (io), P9  PE9 (io), P10 PE11 (io), P11 PB10 (io), P12 PB11 (io), P15 PD15 (io), P16 PD14 (io), R1 PC2_C (in), R2 PC3_C (in), R3 PA6 (io), R5 PA7 (io), R6  PB2 (io), R7 PF12 (io), R9  PF15 (io), R10 PE12 (io), R11 PE15 (io), R15  PD11 (io), R16 PD12 (io), R17 PD13 (io), T1 PA0_C (in), T2 PA1_C (in), T3 PA5 (io), T4 PC4 (io), T5 PB1 (io), T7  PF11 (io), T9 PE8 (io), T10 PE13 (io), T14 PB12 (io), T15 PB15 (io), T16 PD10 (io), T17  PD9 (io), U2 PA3 (io), U3 PA4 (io), U4 PC5 (io), U5 PB0 (io), U9 PE7 (io), U10 PE14 (io), U14 PB13 (io), U15 PB14 (io), U16 PD8 (io)
part C pins: A2 PI6 (io), A3 PI5 (io), A4 PI4 (io), A8 PK5 (io), A9  PG10 (io), A10 PG9 (io), A15 PI1 (io), A16 PI0 (io), B3 PI7 (io), B8 PK4 (io), B9 PG11 (io), B10 PJ15 (io), B15  PI2 (io), B16 PH15 (io), B17 PH14 (io), C7 PK6 (io), C8 PK3 (io), C9  PG12 (io), C14 PI3 (io), D6 PG15 (io), D7 PK7 (io), D8 PG14 (io), D9 PG13 (io), D10 PJ14 (io), D11 PJ12 (io), D16 PH13 (io), E2 PI9 (io), E4 PI8 (io), E7 PDR_ON (in), E8 BOOT0 (in), E10 PJ13 (io), F3  PI10 (io), F4 PI11 (io), F15 PG8 (io), F16  PG7 (io), G14 PG5 (io), G15 PG6 (io), H1 PI12 (io), H2 PI13 (io), H3 PI14 (io), H14  PG4 (io), H15 PG3 (io), H16 PG2 (io), H17 PK2 (io), J1 PH1-OSC_OUT (io), J2 PH0-OSC_IN (io), J14  PK0 (io), J15 PK1 (io), K1 NRST (in), K14 PJ11 (io), L14 PJ10 (io), M14 PJ9 (io), N2  PH2 (io), N6 PJ0 (io), N13 PJ8 (io), N14 PJ7 (io), N15 PJ6 (io), P2 PH3 (io), P3 PH4 (io), P4  PH5 (io), P5 PI15 (io), P6  PJ1 (io), P13 PH10 (io), P14 PH11 (io), R12 PJ5 (io), R13 PH9 (io), R14 PH12 (io), T6 PJ2 (io), T8 PG0 (io), T11  PH6 (io), T13 PH8 (io), U6 PJ3 (io), U7 PJ4 (io), U8 PG1 (io), U13 PH7 (io)

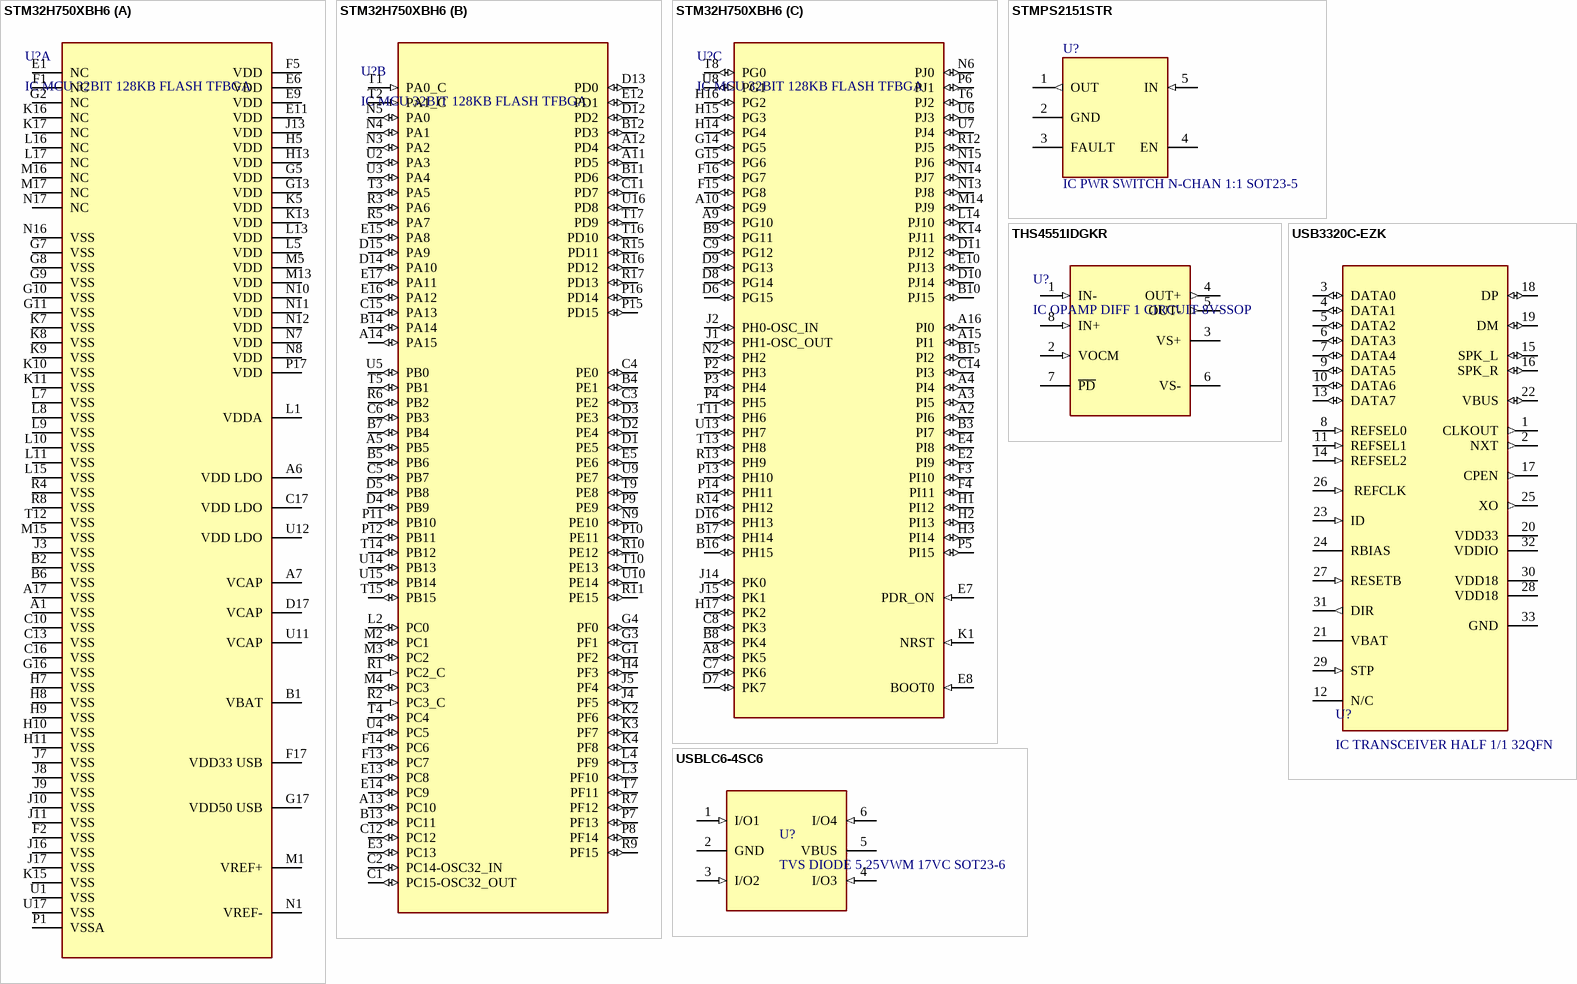
[diagram p3: symbols STM32H750XBH6 to USBLC6-4SC6]

## STM32H750XBH6
designator U?, comment IC MCU 32BIT 128KB FLASH TFBGA
MCU 32-Bit ARM Cortex-M7F RISC 128KB Flash 1.62V to 3.6V 240-Pin TFBGA Tray; Manufacturer: STMicroelectronics; Manufacturer Part Number: STM32H750XBH6; Interface: I2C,SPI,USB,Ethernet,IrDA,MMC,SDIO,SD,UART,USART,EBI/EMI; Peripherals: Brown-out Detect/Reset,POR,PWM,WDT,DMA,LCD; Frequency: 400MHz; Number of I/Os: 168; Oscillator Type: Internal; Supplier 1: Digi-Key; RoHS: Yes; Category: Microcontrollers; Pricing 1: 1=13/62000, 10=12/30700, 25=11/73480, 119=10/18916, 238=9/73122, 476=9/54040 (USD); Case/Package: TFBGA; Min Operating Temperature: -40°C; Max Operating Temperature: 85°C; Packaging: Tray; Memory Type: FLASH; Core Architecture: ARM; Memory Size: 128KB; ComponentLink1URL: https://www.st.com/resource/en/errata_sheet/dm00399555.pdf?src-supplier=Digi-Key; ComponentLink1Description: https://www.st.com/resource/en/errata_sheet/dm00399555.pdf?src-supplier=Digi-Key; Supplier Part Number 1: 497-18111-ND
footprint BGA265C80P17X17_1400X1400X110 (BGA, 265-Leads, Body 14/00x14/00mmx1/10mm, Pitch 0/80mm)
part A pins: A1 VSS (power), A6 VDD LDO (power), A7 VCAP (power), A17 VSS (power), B1 VBAT (power), B2 VSS (power), B6 VSS (power), C10 VSS (power), C13 VSS (power), C16 VSS (power), C17 VDD LDO (power), D17 VCAP (power), E1 NC, E6 VDD (power), E9 VDD (power), E11 VDD (power), F1 NC, F2 VSS (power), F5 VDD (power), F17 VDD33 USB (power), G2 NC, G5 VDD (power), G7 VSS (power), G8 VSS (power), G9 VSS (power), G10 VSS (power), G11 VSS (power), G13 VDD (power), G16 VSS (power), G17 VDD50 USB (power), H5 VDD (power), H7 VSS (power), H8 VSS (power), H9 VSS (power), H10 VSS (power), H11 VSS (power), H13 VDD (power), J3 VSS (power), J7 VSS (power), J8 VSS (power), J9 VSS (power), J10 VSS (power), J11 VSS (power), J13 VDD (power), J16 VSS (power), J17 VSS (power), K5 VDD (power), K7 VSS (power), K8 VSS (power), K9 VSS (power), K10 VSS (power), K11 VSS (power), K13 VDD (power), K15 VSS (power), K16 NC, K17 NC, L1 VDDA (power), L5 VDD (power), L7 VSS (power), L8 VSS (power), L9 VSS (power), L10 VSS (power), L11 VSS (power), L13 VDD (power), L15 VSS (power), L16 NC, L17 NC, M1 VREF+ (power), M5 VDD (power), M13 VDD (power), M15 VSS (power), M16 NC, M17 NC, N1 VREF- (power), N7 VDD (power), N8 VDD (power), N10 VDD (power), N11 VDD (power), N12 VDD (power), N16 VSS (power), N17 NC, P1 VSSA (power), P17 VDD (power), R4 VSS (power), R8 VSS (power), T12 VSS (power), U1 VSS (power), U11 VCAP (power), U12 VDD LDO (power), U17 VSS (power)
part B pins: A5 PB5 (io), A11 PD5 (io), A12 PD4 (io), A13 PC10 (io), A14 PA15 (io), B4 PE1 (io), B5 PB6 (io), B7 PB4 (io), B11 PD6 (io), B12 PD3 (io), B13 PC11 (io), B14 PA14 (io), C1 PC15-OSC32_OUT (io), C2 PC14-OSC32_IN (io), C3 PE2 (io), C4 PE0 (io), C5 PB7 (io), C6 PB3 (io), C11 PD7 (io), C12 PC12 (io), C15 PA13 (io), D1 PE5 (io), D2 PE4 (io), D3 PE3 (io), D4 PB9 (io), D5 PB8 (io), D12 PD2 (io), D13 PD0 (io), D14 PA10 (io), D15 PA9 (io), E3 PC13 (io), E5 PE6 (io), E12 PD1 (io), E13 PC8 (io), E14 PC9 (io), E15 PA8 (io), E16 PA12 (io), E17 PA11 (io), F13 PC7 (io), F14 PC6 (io), G1 PF2 (io), G3 PF1 (io), G4 PF0 (io), H4 PF3 (io), J4 PF5 (io), J5 PF4 (io), K2 PF6 (io), K3 PF7 (io), K4 PF8 (io), L2 PC0 (io), L3 PF10 (io), L4 PF9 (io), M2 PC1 (io), M3 PC2 (io), M4 PC3 (io), N3 PA2 (io), N4 PA1 (io), N5 PA0 (io), N9 PE10 (io), P7 PF13 (io), P8 PF14 (io), P9 PE9 (io), P10 PE11 (io), P11 PB10 (io), P12 PB11 (io), P15 PD15 (io), P16 PD14 (io), R1 PC2_C (in), R2 PC3_C (in), R3 PA6 (io), R5 PA7 (io), R6 PB2 (io), R7 PF12 (io), R9 PF15 (io), R10 PE12 (io), R11 PE15 (io), R15 PD11 (io), R16 PD12 (io), R17 PD13 (io), T1 PA0_C (in), T2 PA1_C (in), T3 PA5 (io), T4 PC4 (io), T5 PB1 (io), T7 PF11 (io), T9 PE8 (io), T10 PE13 (io), T14 PB12 (io), T15 PB15 (io), T16 PD10 (io), T17 PD9 (io), U2 PA3 (io), U3 PA4 (io), U4 PC5 (io), U5 PB0 (io), U9 PE7 (io), U10 PE14 (io), U14 PB13 (io), U15 PB14 (io), U16 PD8 (io)
part C pins: A2 PI6 (io), A3 PI5 (io), A4 PI4 (io), A8 PK5 (io), A9 PG10 (io), A10 PG9 (io), A15 PI1 (io), A16 PI0 (io), B3 PI7 (io), B8 PK4 (io), B9 PG11 (io), B10 PJ15 (io), B15 PI2 (io), B16 PH15 (io), B17 PH14 (io), C7 PK6 (io), C8 PK3 (io), C9 PG12 (io), C14 PI3 (io), D6 PG15 (io), D7 PK7 (io), D8 PG14 (io), D9 PG13 (io), D10 PJ14 (io), D11 PJ12 (io), D16 PH13 (io), E2 PI9 (io), E4 PI8 (io), E7 PDR_ON (in), E8 BOOT0 (in), E10 PJ13 (io), F3 PI10 (io), F4 PI11 (io), F15 PG8 (io), F16 PG7 (io), G14 PG5 (io), G15 PG6 (io), H1 PI12 (io), H2 PI13 (io), H3 PI14 (io), H14 PG4 (io), H15 PG3 (io), H16 PG2 (io), H17 PK2 (io), J1 PH1-OSC_OUT (io), J2 PH0-OSC_IN (io), J14 PK0 (io), J15 PK1 (io), K1 NRST (in), K14 PJ11 (io), L14 PJ10 (io), M14 PJ9 (io), N2 PH2 (io), N6 PJ0 (io), N13 PJ8 (io), N14 PJ7 (io), N15 PJ6 (io), P2 PH3 (io), P3 PH4 (io), P4 PH5 (io), P5 PI15 (io), P6 PJ1 (io), P13 PH10 (io), P14 PH11 (io), R12 PJ5 (io), R13 PH9 (io), R14 PH12 (io), T6 PJ2 (io), T8 PG0 (io), T11 PH6 (io), T13 PH8 (io), U6 PJ3 (io), U7 PJ4 (io), U8 PG1 (io), U13 PH7 (io)

## STMPS2151STR
designator U?, comment IC PWR SWITCH N-CHAN 1:1 SOT23-5
Power Switch/Driver 1:1 N-Channel 500mA SOT-23-5; Supplier 1: RSComponents; Supplier Part Number 1: 8805415P
footprint SOT95P280X145-5N (SOT23, 5-Leads, Body 2/90x2/80mm, Pitch 0/95mm, IPC Medium Density)
pins: 1 OUT (out), 2 GND (power), 3 FAULT (power), 4 EN (power), 5 IN (in)

## THS4551IDGKR
designator U?, comment IC OPAMP DIFF 1 CIRCUIT 8VSSOP
Low Noise, Precision, 150MHz, Fully Differential Amplifier 8-VSSOP -40 to 125; Manufacturer: Texas Instruments; Manufacturer Part Number: THS4551IDGKR; Number of Circuits: 1; Slew Rate: 220V/µs; Gain Bandwidth Product: 135MHz; Input Bias Current: 1uA; Input Offset Voltage (Vos): 50uV; Operating Supply Current: 1.35mA; Output Current per Channel: 65mA; Supplier 1: Digi-Key; RoHS: Yes; Category: Amplifiers - Op Amps, Buffer, Instrumentation; Pricing 1: 1=4/35000, 10=3/90300, 25=3/68960, 100=3/19760, 250=3/03368, 500=2/72210, 1000=2/70725 (USD); Mount: Surface Mount; Case/Package: VSSOP; Min Operating Temperature: -40°C; Max Operating Temperature: 125°C; Packaging: Tape and Reel; -3db Bandwidth: 150MHz; Number of Channels: 1; Lead Free: Lead Free; RoHS Compliant: Yes; ComponentLink1URL: http://www.ti.com/lit/ds/symlink/ths4551.pdf?src-supplier=Digi-Key; ComponentLink1Description: http://www.ti.com/lit/ds/symlink/ths4551.pdf?src-supplier=Digi-Key; ComponentLink2URL: http://www.ti.com/general/docs/suppproductinfo.tsp?distId=10&amp;gotoUrl=http%3A%2F%2Fwww.ti.com%2Flit%2Fgpn%2Fths4551&src-supplier=Digi-Key; ComponentLink2Description: http://www.ti.com/general/docs/suppproductinfo.tsp?distId=10&amp;gotoUrl=http%3A%2F%2Fwww.ti.com%2Flit%2Fgpn%2Fths4551&src-supplier=Digi-Key; Supplier Part Number 1: 296-47312-1-ND
footprint TSOP65P490X110-8N (TSOP, 8-Leads, Body 3/00x3/00mm, Pitch 0/65mm, IPC Medium Density)
pins: 1 IN- (in), 2 VOCM (in), 3 VS+ (power), 4 OUT+ (out), 5 OUT- (out), 6 VS- (power), 7 ~{PD} (power), 8 IN+ (in)

## USB3320C-EZK
designator U?, comment IC TRANSCEIVER HALF 1/1 32QFN
1/1 Transceiver Half USB 2.0 32-QFN (5x5); Supplier 1: RSComponents; Supplier Part Number 1: 7160468
footprint QFN50P500X500X100_HS-33N(1) (QFN, 32-Leads, Body 5/00x5/00mm, Pitch 0/50mm, Thermal Pad 3/30x3/30mm, IPC Medium Density)
pins: 1 CLKOUT (out), 2 NXT (out), 3 DATA0 (io), 4 DATA1 (io), 5 DATA2 (io), 6 DATA3 (io), 7 DATA4 (io), 8 REFSEL0 (in), 9 DATA5 (io), 10 DATA6 (io), 11 REFSEL1 (in), 12 N/C (power), 13 DATA7 (io), 14 REFSEL2 (in), 15 SPK_L (io), 16 SPK_R (io), 17 CPEN (out), 18 DP (io), 19  DM (io), 20 VDD33 (power), 21 VBAT (power), 22 VBUS (io), 23 ID (in), 24 RBIAS (power), 25 XO (out), 26  REFCLK (in), 27 RESETB (in), 28 VDD18 (power), 29 STP (in), 30 VDD18 (power), 31 DIR (out), 32 VDDIO (power), 33 GND (power)

## USBLC6-4SC6
designator U?, comment TVS DIODE 5.25VWM 17VC SOT23-6
17V Clamp 5A (8/20µs) Ipp Tvs Diode Surface Mount SOT-23-6; Supplier 1: Avnet; Supplier Part Number 1: 26M4749
footprint SOT95P280X145-6N (SOT23, 6-Leads, Body 2/93x2/80mm, Pitch 0/95mm, IPC Medium Density)
pins: 1 I/O1 (in), 2 GND (power), 3 I/O2 (in), 4 I/O3 (in), 5 VBUS (power), 6 I/O4 (in)


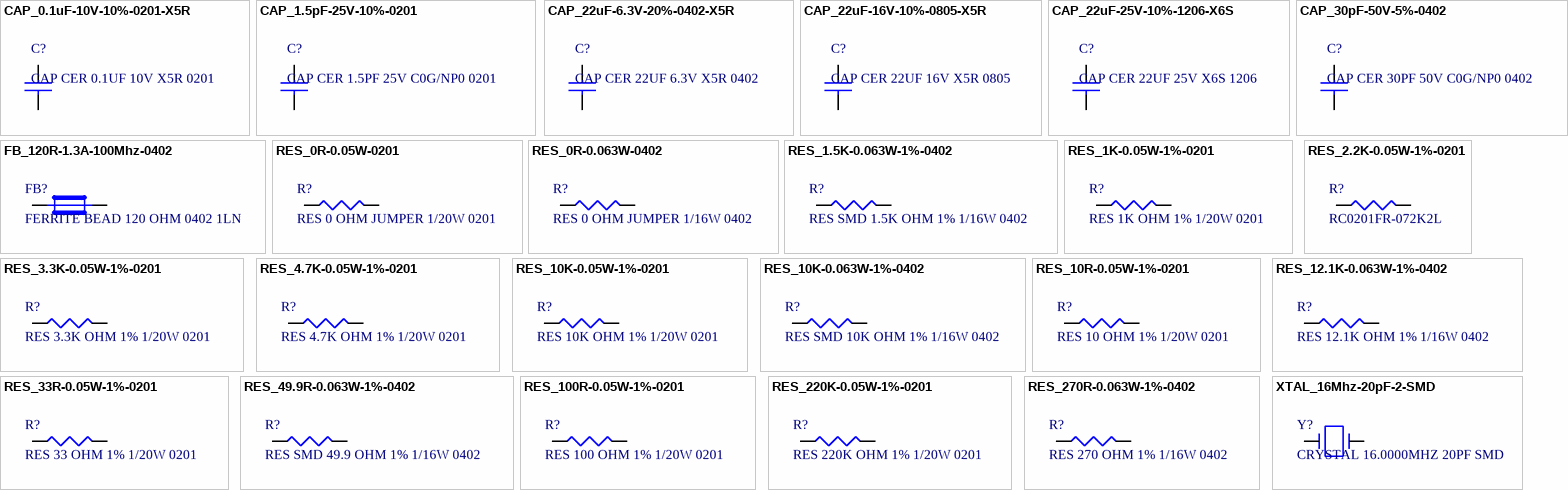
[diagram p4: symbols CAP_0.1uF-10V-10%-0201-X5R to XTAL_16Mhz-20pF-2-SMD]

## CAP_0.1uF-10V-10%-0201-X5R
designator C?, comment CAP CER 0.1UF 10V X5R 0201
Cap Ceramic 0.1uF 10V X5R 10% Pad SMD 0201 85C T/R; Manufacturer: Samsung; Manufacturer Part Number: CL03A104KP3NNNC; Capacitance: 100nF; Supplier 1: Digi-Key; RoHS: Yes; Category: Ceramic Capacitors; Stock 1: 10669504; Pricing 1: 1=0/10000, 10=0/03100, 50=0/01660, 100=0/01360, 500=0/00974, 1000=0/00765, 2500=0/00696, 5000=0/00640 (USD); Mount: Surface Mount; Case/Package: 0201; Case Code (Metric): 0603; Case Code (Imperial): 0201; Contact Plating: Tin; Min Operating Temperature: -55°C; Max Operating Temperature: 85°C; Packaging: Tape and Reel; Tolerance: 10%; Package Quantity: 1; Voltage Rating: 10V; Dielectric: X5R; Voltage Rating (DC): 10V; Series: CL; Construction: Flat; Length: 0.6mm; Width: 0.012inch; Height: 0.3mm; Thickness: 0.013inch; Depth: 0.3mm; Radiation Hardening: No; Lead Free: Lead Free; ComponentLink1URL: https://datasheet.ciiva.com/25803/cl03a104kp3nnnc-25803204.pdf?src-supplier=Digi-Key; ComponentLink1Description: https://datasheet.ciiva.com/25803/cl03a104kp3nnnc-25803204.pdf?src-supplier=Digi-Key; ComponentLink2URL: https://datasheet.ciiva.com/26838/getdatasheetpartid-357484-26838083.pdf?src-supplier=Verical; ComponentLink2Description: https://datasheet.ciiva.com/26838/getdatasheetpartid-357484-26838083.pdf?src-supplier=Verical; Supplier Part Number 1: 1276-1115-1-ND
footprint CAPC0603X03N - 0201 (Chip Capacitor, 2-Leads, Body 0/60x0/30mm, IPC Medium Density)
footprint CAPC0603X03L - 0201 (Chip Capacitor, 2-Leads, Body 0/60x0/30mm, IPC High Density)
footprint CAPC0603X03M - 0201 (Chip Capacitor, 2-Leads, Body 0/60x0/30mm, IPC Low Density)
pins: 1, 2

## CAP_1.5pF-25V-10%-0201
designator C?, comment CAP CER 1.5PF 25V C0G/NP0 0201
Cap Ceramic 1.5pF 25V C0G 0.1pF SMD 0201 125C Paper T/R; Manufacturer: Johanson; Manufacturer Part Number: 250R05L1R5BV4T; Supplier 1: Digi-Key; RoHS: Yes; Category: Ceramic Capacitors; Stock 1: 781784; Pricing 1: 1=0/19000, 10=0/13200, 50=0/07500, 100=0/06220, 500=0/04362, 1000=0/03611, 2500=0/03360, 5000=0/03074 (USD); Mount: Surface Mount; Case/Package: 0201; Number of Pins: 2; Case Code (Imperial): 0201; Case Code (Metric): 0603; Contact Plating: Tin; Min Operating Temperature: -55°C; Max Operating Temperature: 125°C; Voltage Rating: 25V; Capacitance: 1.5pF; Packaging: Tape and Reel; Termination: SMD/SMT; Series: L; Voltage Rating (DC): 25V; Package Quantity: 15000; Dielectric: C0G; Construction: Flat; Length: 0.6mm; Width: 0.3mm; Height: 0.3mm; Thickness: 0.013inch; Depth: 0.3mm; REACH SVHC: No SVHC; RoHS Compliant: Yes; ComponentLink1URL: https://datasheet.ciiva.com/1470/1318610-1470404.pdf?src-supplier=Farnell; ComponentLink1Description: https://datasheet.ciiva.com/1470/1318610-1470404.pdf?src-supplier=Farnell; ComponentLink2URL: https://datasheet.ciiva.com/22697/1731432-22697448.pdf?src-supplier=Element14; ComponentLink2Description: https://datasheet.ciiva.com/22697/1731432-22697448.pdf?src-supplier=Element14; ComponentLink3URL: https://datasheet.ciiva.com/1461/1731432-1461261.pdf?src-supplier=Element14; ComponentLink3Description: https://datasheet.ciiva.com/1461/1731432-1461261.pdf?src-supplier=Element14; Supplier Part Number 1: 712-1185-1-ND
footprint CAPC0603X03N - 0201 (Chip Capacitor, 2-Leads, Body 0/60x0/30mm, IPC Medium Density)
footprint CAPC0603X03M - 0201 (Chip Capacitor, 2-Leads, Body 0/60x0/30mm, IPC Low Density)
footprint CAPC0603X03L - 0201 (Chip Capacitor, 2-Leads, Body 0/60x0/30mm, IPC High Density)
pins: 1, 2

## CAP_22uF-6.3V-20%-0402-X5R
designator C?, comment CAP CER 22UF 6.3V X5R 0402
Cap Ceramic 22uF 6.3V X5R 20% SMD 0402 85°C Cardboard T/R; Manufacturer: Samsung; Manufacturer Part Number: CL05A226MQ5QUNC; Supplier 1: Digi-Key; RoHS: Yes; Category: Ceramic Capacitors; Stock 1: 303668; Pricing 1: 1=0/60000, 10=0/42200, 50=0/31940, 100=0/27820, 500=0/20608, 1000=0/17517, 2500=0/16486, 5000=0/15456 (USD); Mount: Surface Mount; Case/Package: 0402; Case Code (Metric): 1005; Case Code (Imperial): 0402; Min Operating Temperature: -55°C; Max Operating Temperature: 85°C; Packaging: Tape and Reel; Capacitance: 22uF; Voltage Rating: 6.3V; Tolerance: 20%; Length: 0.039inch; Width: 0.02inch; Thickness: 0.022inch; RoHS Compliant: Yes; ComponentLink1URL: http://www.samsungsem.com/kr/support/product-search/mlcc/__icsFiles/afieldfile/2018/08/20/Data%20sheet_CL05A226MQ5QUNC.pdf?src-supplier=Digi-Key; ComponentLink1Description: http://www.samsungsem.com/kr/support/product-search/mlcc/__icsFiles/afieldfile/2018/08/20/Data%20sheet_CL05A226MQ5QUNC.pdf?src-supplier=Digi-Key; Supplier Part Number 1: 1276-6834-1-ND
footprint CAPC1005X07N - 0402 (Chip Capacitor, 2-Leads, Body 1/00x0/50mm, IPC Medium Density)
footprint CAPC1005X07M - 0402 (Chip Capacitor, 2-Leads, Body 1/00x0/50mm, IPC Low Density)
footprint CAPC1005X07L - 0402 (Chip Capacitor, 2-Leads, Body 1/00x0/50mm, IPC High Density)
pins: 1, 2

## CAP_22uF-16V-10%-0805-X5R
designator C?, comment CAP CER 22UF 16V X5R 0805
CL21 Series 0805 22 uF 16 V ±10% Tolerance X5R Multilayer Ceramic Capacitor; Manufacturer: Samsung; Manufacturer Part Number: CL21A226KOQNNNE; Supplier 1: Digi-Key; RoHS: Yes; Category: Ceramic Capacitors; Stock 1: 721; Pricing 1: 1=0/37000, 10=0/25800, 50=0/18040, 100=0/15460, 500=0/11592, 1000=0/09789 (USD); Mount: Surface Mount; Case/Package: 0805; Case Code (Metric): 2012; Case Code (Imperial): 0805; Min Operating Temperature: -55°C; Max Operating Temperature: 85°C; Packaging: Tape and Reel; Capacitance: 22uF; Voltage Rating: 16V; Tolerance: 10%; Voltage Rating (DC): 16V; Length: 0.079inch; Width: 0.049inch; Thickness: 0.055inch; Lead Free: Lead Free; RoHS Compliant: Yes; ComponentLink1URL: http://www.samsungsem.com/kr/support/library/product-catalog/mlcc.jsp?src-supplier=Digi-Key; ComponentLink1Description: http://www.samsungsem.com/kr/support/library/product-catalog/mlcc.jsp?src-supplier=Digi-Key; Supplier Part Number 1: 1276-6526-1-ND
footprint CAPC2012X14N - 0805 (Chip Capacitor, 2-Leads, Body 2/00x1/25mm, IPC Medium Density)
footprint CAPC2012X14M - 0805 (Chip Capacitor, 2-Leads, Body 2/00x1/25mm, IPC Low Density)
footprint CAPC2012X14L - 0805 (Chip Capacitor, 2-Leads, Body 2/00x1/25mm, IPC High Density)
pins: 1, 2